# Altium footprint library Pcb_WS_v4.PcbLib: 33 footprints (part 2 of 3)
Each footprint in its own frame and in the unit in brackets; x right, y up, seen from the top. Pads: shape width x height; smd on the part's side, far side on the other; paste and mask are expansions set on the pad; w line width, h text height; cw(c..) or ccw(c..) is an arc to the next point about the centre after c.
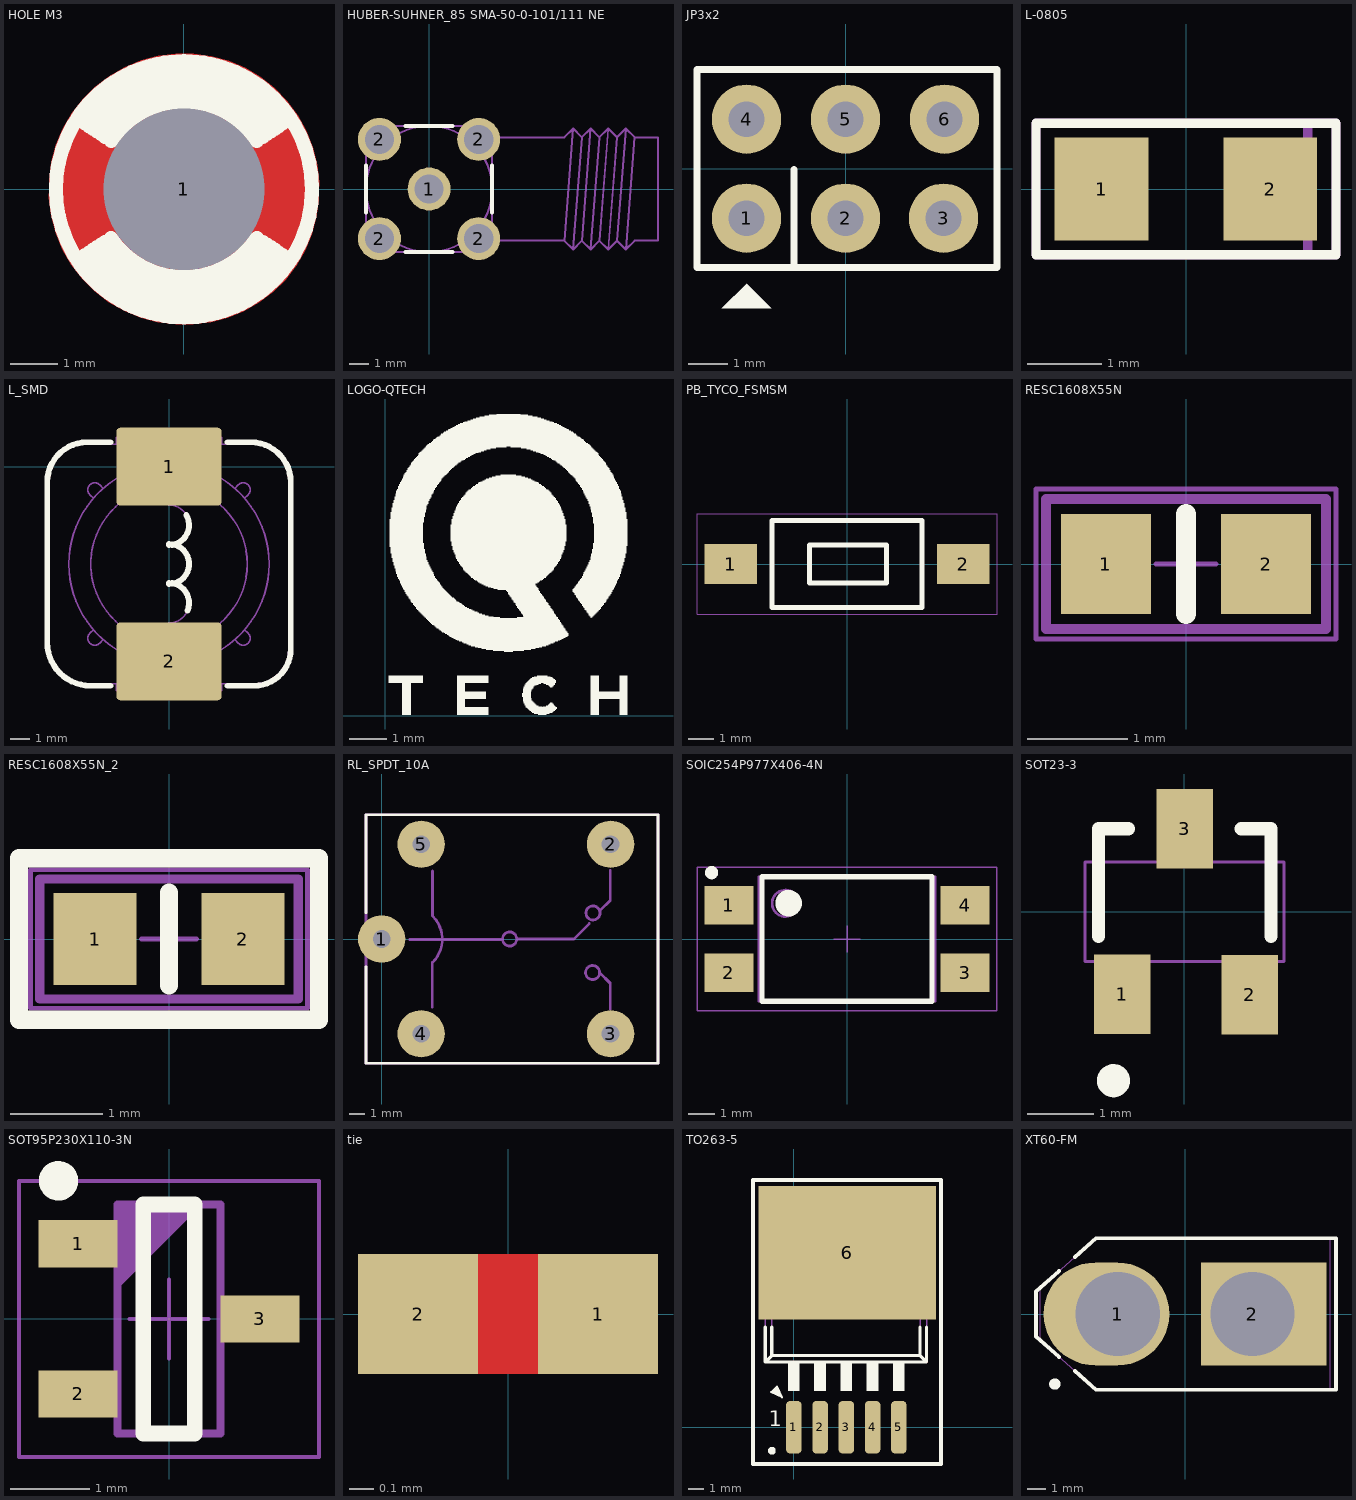
[diagram p1: the footprints below, top view; thin cyan lines are the x and y axes]

## HOLE M3 [mm]
pads (1):
  round 3.2 hole 3.4 unplated mask+0.1: 1(0,0)
Top Layer:
  pour cut-out: -2.846,0.006 -2.846,0.194 -2.797,0.566 -2.7,0.928 -2.557,1.275 -2.369,1.599 -2.14,1.897 -1.874,2.161 -1.576,2.389 -1.25,2.575 -0.903,2.717 -0.541,2.813 -0.168,2.86 0.019,2.859 0.207,2.858 0.58,2.808 0.943,2.708 1.29,2.562 1.614,2.37 1.91,2.138 2.173,1.868 2.398,1.567 2.581,1.238 2.718,0.887 2.808,0.522 2.849,0.148 2.845,-0.041 2.845,-0.226 2.796,-0.592 2.7,-0.949 2.557,-1.291 2.371,-1.611 2.145,-1.903 1.882,-2.164 1.587,-2.387 1.265,-2.57 0.922,-2.709 0.564,-2.802 0.197,-2.847 0.012,-2.845 -0.176,-2.848 -0.548,-2.803 -0.912,-2.709 -1.26,-2.567 -1.586,-2.381 -1.884,-2.154 -2.15,-1.888 -2.378,-1.59 -2.565,-1.265 -2.707,-0.917 -2.802,-0.554 -2.848,-0.181
Top Overlay:
  circle w0.3: c0,0 r2.702
  lines w0.3: -2.247,-1.498 ccw(c0,0) 2.247,-1.498 ; -2.247,1.498 cw(c0,0) 2.247,1.498 ; -2.163,-1.442 ccw(c0,0) 2.163,-1.442 ; -2.163,1.442 cw(c0,0) 2.163,1.442 ; -1.997,-1.331 ccw(c0,0) 1.997,-1.331 ; -1.997,1.331 cw(c0,0) 1.997,1.331 ; -1.831,-1.22 ccw(c0,0) 1.831,-1.22 ; -1.831,1.22 cw(c0,0) 1.831,1.22 ; -1.747,-1.165 ccw(c0,0) 1.747,-1.165 ; -1.747,1.165 cw(c0,0) 1.747,1.165 ; -1.664,-1.109 ccw(c0,0) 1.664,-1.109 ; -1.664,1.109 cw(c0,0) 1.664,1.109 ; -1.539,-1.026 ccw(c0,0) 1.539,-1.026 ; -1.534,1.023 cw(c0,0.007) 1.534,1.023 ; -2.08,-1.387 ccw(c0,0) 2.08,-1.387 cw(c0,0) -2.08,-1.387 ; -2.08,1.387 cw(c0,0) 2.08,1.387 ccw(c0,0) -2.08,1.387 ; -1.914,-1.276 ccw(c0,0) 1.914,-1.276 cw(c0,0) -1.914,-1.276 ; -1.914,1.276 cw(c0,0) 1.914,1.276 ccw(c0,0) -1.914,1.276
Top 3D Body:
  circle w0.05: c0,0 r2.702
  circle w0.05: c0,0 r1.686
  pour cut-out: 0,0
  region: -3.48,2.007
  pour cut-out: -2.845,0
  pour cut-out: -2.845,0
  pour cut-out: -2.845,0
Mechanical 14:
  circle w0.05: c0,0 r1.581
  circle w0.05: c0,0 r2.795
  lines w0.05: -1.575,0 0,0 ; 0,-1.575 0,0 ; 0,1.575 0,0 ; 1.575,0 0,0
3D body "Screw-3mmX10mm.step": height 1.73, standoff -10, extent -2.5,-2.5 2.5,2.5

## HUBER-SUHNER_85 SMA-50-0-101/111 NE [mm] "50 Ohm SMA Right Angle PCB Jack"
height 9.6
pads (5):
  round 2.2 hole 1.5: 1(0,0) 2(-2.54,-2.54) 2(-2.54,2.54) 2(2.54,-2.54) 2(2.54,2.54)
Top Overlay:
  lines w0.2: -3.23,-1.208 -3.23,1.208 ; -1.208,-3.23 1.208,-3.23 ; -1.208,3.23 1.208,3.23 ; 3.23,-1.208 3.23,1.208
Mechanical 8:
  lines w0.1: -3.54,-2.54 -2.54,-2.54 ; -3.54,2.54 -2.54,2.54 ; -2.54,-3.54 -2.54,-2.54 ; -2.54,-1.54 -2.54,-2.54 ; -2.54,1.54 -2.54,2.54 ; -2.54,3.54 -2.54,2.54 ; -1.54,-2.54 -2.54,-2.54 ; -1.54,2.54 -2.54,2.54 ; -1,0 0,0 ; 0,-1 0,0 ; 0,1 0,0 ; 1,0 0,0 ; 1.54,-2.54 2.54,-2.54 ; 1.54,2.54 2.54,2.54 ; 2.54,-3.54 2.54,-2.54 ; 2.54,-1.54 2.54,-2.54 ; 2.54,1.54 2.54,2.54 ; 2.54,3.54 2.54,2.54 ; 3.54,-2.54 2.54,-2.54 ; 3.54,2.54 2.54,2.54
Top Assembly:
  circle w0.1: c0,0 r3.23
  circle w0.1: c0,0 r0.63
  lines w0.1: 2.558,-3.23 3.23,-2.558 ; 3.23,-2.65 6.93,-2.65 ; 3.23,2.65 6.93,2.65 7.38,3.1 ; 6.93,-2.65 7.38,3.1 ; 6.93,-2.65 7.38,-3.1 ; 7.38,-3.1 7.83,2.65 ; 7.38,-3.1 7.83,-2.65 ; 7.38,3.1 7.83,2.65 ; 7.83,-2.65 8.28,3.1 ; 7.83,-2.65 8.28,-3.1 ; 7.83,2.65 8.28,3.1 ; 8.28,-3.1 8.73,2.65 ; 8.28,-3.1 8.73,-2.65 ; 8.28,3.1 8.73,2.65 ; 8.73,-2.65 9.18,3.1 ; 8.73,-2.65 9.18,-3.1 ; 8.73,2.65 9.18,3.1 ; 9.18,-3.1 9.63,2.65 ; 9.18,-3.1 9.63,-2.65 ; 9.18,3.1 9.63,2.65 ; 9.63,-2.65 10.08,3.1 ; 9.63,-2.65 10.08,-3.1 ; 9.63,2.65 10.08,3.1 ; 10.08,-3.1 10.53,2.65 ; 10.08,-3.1 10.53,-2.65 11.73,-2.65 11.73,2.65 10.53,2.65 ; 10.08,3.1 10.53,2.65 ; -3.23,-3.23 3.23,-3.23 3.23,3.23 -3.23,3.23 -3.23,-3.23
3D body "HUBER-SUHNER_85 SMA-50-0-101-111 NE.stp": height 9.6, standoff -4, extent -3.23,-3.23 11.73,3.23

## JP3x2 [mil] "Connector 3x2"
height 200
pads (6):
  round 70 hole 36: 1(-100,-50) 2(0,-50) 3(99,-50) 4(-100,50) 5(0,50) 6(100,50)
Top Overlay:
  region: -100,-116 -125,-141 -75,-141
  lines w7: -52,-100 -52,-1 ; -150,-100 153,-100 153,100 -150,100 -150,0 -150,-100
3D body "JP2-3.stp": height 335.24, standoff -117.51, extent -149.99,-100 150.01,100

## L-0805 [mil] "Compoment SMD 80x50mil"
height 50
pads (2):
  rect 50x55 smd: 1(-45,0) 2(45,0)
Top Overlay:
  lines w5: -80,-35 -80,35 80,35 80,-35 -80,-35
Top Assembly:
  lines w5: 65,-35 65,35 ; -80,-35 -80,35 80,35 80,-35 -80,-35
3D body: height 39.37, standoff 0, extent -40,-20 40,20
3D body: height 43.31, standoff 0, extent -50,-20 -40,20
3D body: height 43.31, standoff 0, extent 40,-20 50,20

## L_SMD [mm]
height 15.24
pads (2):
  rrect10% 5.4x4 smd mask+0.1: 1(0,0) 2(0,-10)
Top Overlay:
  lines w0.3: -3,-11.25 -4.031,-11.25 cw(c-4.031,-9.031) -6.25,-9.031 -6.25,-0.796 cw(c-4.204,-0.796) -4.204,1.25 -3,1.25 ; 0,-6.03 ccw(c0,-5) 0,-3.97 ; 0,-5.97 cw(c0,-7) 0.956,-7.381 ; 0,-4.03 ccw(c0,-3) 0.889,-2.481 ; 3,-11.25 4.372,-11.25 ccw(c4.372,-9.372) 6.25,-9.372 6.25,-0.796 ccw(c4.204,-0.796) 4.204,1.25 3,1.25
Top Assembly:
  circle w0.086: c0,-5 r5.143
  circle w0.086: c0,-5 r4.016
  lines w0.086: -3.879,-8.371 -4.064,-8.556 ccw(c-3.81,-8.81) -3.556,-9.064 -3.371,-8.879 ; -3.879,-1.629 -4.064,-1.444 cw(c-3.81,-1.19) -3.556,-0.936 -3.371,-1.121 ; -2.7,-11.15 -2.7,-11.5 2.7,-11.5 2.7,-11.15 ; -2.7,1.15 -2.7,1.5 2.7,1.5 2.7,1.15 ; -2.7,1.375 -2.7,1.4 ; 0,-8.2 0,-8.03 ccw(c0,-7) 0,-5.97 ; 0,-6.03 ccw(c0,-5) 0,-3.97 ; 0,-4.03 ccw(c0,-3) 0,-1.97 0,-1.8 ; 3.371,-8.879 3.556,-9.064 ccw(c3.81,-8.81) 4.064,-8.556 3.879,-8.371 ; 3.371,-1.121 3.556,-0.936 cw(c3.81,-1.19) 4.064,-1.444 3.879,-1.629 ; -6.15,-9.372 ccw(c-4.372,-9.372) -4.372,-11.15 4.372,-11.15 ccw(c4.372,-9.372) 6.15,-9.372 6.15,-0.628 ccw(c4.372,-0.628) 4.372,1.15 -4.372,1.15 ccw(c-4.372,-0.628) -6.15,-0.628 -6.15,-9.372
  text "2" at -0.5,-10.2 h1.2
  text "1" at -0.5,0.9 h1.2
3D body "User Library-WE-DD-L.STEP": height 6.7, standoff 0, extent -6.25,-11.25 6.25,1.25

## LOGO-QTECH [mm]
Top Overlay:
  drawing of 802 lines, arcs and shapes, not listed

## PB_TYCO_FSMSM [mm] "Body 3.5x6.0mm, Pushbutton Switch,  TYCO FSMSM Serie"
height 4.3
pads (2):
  rect 2.1x1.6 smd: 1(-4.65,0) 2(4.65,0)
Top Overlay:
  lines w0.2: -3,-1.75 3,-1.75 3,1.75 -3,1.75 -3,-1.75 ; -1.5,-0.75 1.575,-0.75 1.575,0.75 -1.5,0.75 -1.5,-0.75
Top Assembly:
  lines w0.1: -3,-1.75 -3,1.75 3,1.75 3,-1.75 -3,-1.75 ; -1.5,-0.75 -1.5,0.75 1.575,0.75 1.575,-0.75 -1.5,-0.75
Mechanical 15:
  lines w0.05: -6,-2 6,-2 6,2 -6,2 -6,-2
3D body "PB_TYCO_FSMSM.stp": height 4.3, standoff 0, extent -5,-1.75 5,1.75

## RESC1608X55N [mm] "Chip Resistor, EIA 0603, Metric 1608, Body 1.6x0.8mm, IPC Medium Density"
height 0.55
pads (2):
  rect 0.9x1 smd: 1(-0.8,0) 2(0.8,0)
Top Overlay:
  lines w0.2: 0,-0.5 0,0.5
Top Assembly:
  lines w0.1: -1.4,-0.65 -1.4,0.65 1.4,0.65 1.4,-0.65 -1.4,-0.65
Mechanical 15:
  lines w0.05: -0.3,0 0.3,0 ; 0,-0.3 0,0.3 ; -1.5,-0.75 1.5,-0.75 1.5,0.75 -1.5,0.75 -1.5,-0.75
3D body "RESC1608X55N.stp": height 0.55, standoff 0, extent -0.875,-0.475 0.875,0.475

## RESC1608X55N_2 [mm]
pads (2):
  rect 0.9x1 smd: 1(-0.8,0) 2(0.8,0)
Top Overlay:
  lines w0.2: 0,-0.5 0,0.5 ; -1.625,-0.875 1.625,-0.875 1.625,0.875 -1.625,0.875 -1.625,-0.875
Top Assembly:
  lines w0.1: -1.4,-0.65 1.4,-0.65 1.4,0.65 -1.4,0.65 -1.4,-0.65
Mechanical 15:
  lines w0.05: -0.3,0 0.3,0 ; 0,-0.3 0,0.3 ; -1.5,-0.75 -1.5,0.75 1.5,0.75 1.5,-0.75 -1.5,-0.75
3D body "RESC1608X55N.stp": height 0.55, standoff 0, extent -0.875,-0.475 0.875,0.475

## RL_SPDT_10A [mil] "Relay SPDT, 5 pin, 10A,W 650mil, L 800mil, H 800mil"
height 800
pads (5):
  round 120 hole 45: 1(0,0) 2(580,240) 3(580,-240) 4(100,-240) 5(100,240)
Top Overlay:
  lines w7: -40,-70.39 -40,-315 700,-315 700,315 -40,315 -40,66.64
Top Assembly:
  circle w7: c324.2,0 r17.8
  circle w7: c535.2,66 r17.8
  circle w7: c534.2,-85 r17.8
  lines w7: 71,-1 304,-1 ; 128,-173 128,-60 ; 129,-59 ccw(c71.5,-0.5) 130,57 ; 129,58 129,172 ; 344,0 487,0 526,39 ; 552,-85 579,-112 579,-178 ; 553,72 579,98 579,174 ; -40,-315 700,-315 700,315 -40,315 -40,-315

## SOIC254P977X406-4N [mm] "SOIC, 2.54mm pitch; 4 pin, 6.65mm W X 4.69mm L, IPC Medium Density"
height 4.06
pads (4):
  rect 1.85x1.45 smd: 1(-4.45,1.27) 2(-4.45,-1.27) 3(4.45,-1.27) 4(4.45,1.27)
Top Overlay:
  circle w0.5: c-2.2,1.35 r0.25
  circle w0.25: c-5.1,2.5 r0.125
  lines w0.2: -3.2,-2.35 3.2,-2.35 3.2,2.35 -3.2,2.35 -3.2,-2.35
Top Assembly:
  circle w0.1: c-2.322,1.345 r0.5
  lines w0.1: -3.322,-2.345 -3.322,2.345 3.322,2.345 3.322,-2.345 -3.322,-2.345
Mechanical 15:
  lines w0.05: -0.5,0 0.5,0 ; 0,-0.5 0,0.5 ; -5.65,-2.7 -5.65,2.7 5.65,2.7 5.65,-2.7 -5.65,-2.7
3D body "SOIC254P977X406-4N.stp": height 4.06, standoff 0, extent -5.015,-2.415 5.015,2.415

## SOT23-3 [mm] "SOT 23"
height 1.27
pads (3):
  rect 0.85x1.2 smd: 1(-0.94,-1.245) 2(0.985,-1.25) 3(0.005,1.25)
Top Overlay:
  circle w0.25: c-1.07,-2.548 r0.125
  lines w0.2: -1.295,-0.375 -1.295,1.25 -0.845,1.25 ; 0.855,1.25 1.305,1.25 1.305,-0.375
Top Assembly:
  lines w0.05: -1.25,-0.75 -1.25,-1.5 -0.625,-1.5 -0.625,-0.75 ; -0.25,0.75 -0.25,1.5 0.25,1.5 0.25,0.75 ; 0.625,-0.75 0.625,-1.5 1.25,-1.5 1.25,-0.75 ; -1.5,-0.75 1.5,-0.75 1.5,0.75 -1.5,0.75 -1.5,-0.75
3D body: height 1.27, standoff 0, extent -1.499,-0.686 1.524,0.711
3D body: height 1.27, standoff 0, extent -0.879,-0.505 -0.63,-0.257
3D body: height 0.9, standoff 0.75, extent -1.158,-0.837 -0.701,-0.557
3D body: height 0.9, standoff 0, extent -1.158,-0.964 -0.701,-0.837
3D body: height 0.15, standoff 0, extent -1.158,-1.497 -0.701,-0.964
3D body: height 0.9, standoff 0.75, extent -0.234,0.563 0.224,0.842
3D body: height 0.9, standoff 0, extent -0.234,0.842 0.224,0.969
3D body: height 0.15, standoff 0, extent -0.234,0.969 0.224,1.503
3D body: height 0.9, standoff 0.75, extent 0.767,-0.842 1.224,-0.563
3D body: height 0.9, standoff 0, extent 0.767,-0.969 1.224,-0.842
3D body: height 0.15, standoff 0, extent 0.767,-1.503 1.224,-0.969

## SOT95P230X110-3N [mm] "SOT23, 3 pin, Pitch 0.95mm - 1.3mm W X 2.9mm L X 1.1mm H, IPC Medium Density"
height 1.1
pads (3):
  rect 1x0.6 smd: 1(-1.15,0.95) 2(-1.15,-0.95) 3(1.15,0)
Top Overlay:
  circle w0.25: c-1.4,1.75 r0.125
  lines w0.2: -0.325,-1.45 0.325,-1.45 0.325,1.45 -0.325,1.45 -0.325,-1.45
Top Assembly:
  lines w0.1: -0.65,0.45 0.35,1.45 ; -0.65,0.55 0.25,1.45 ; -0.65,0.65 0.15,1.45 ; -0.65,0.75 0.05,1.45 ; -0.65,0.85 -0.05,1.45 ; -0.65,0.95 -0.15,1.45 ; -0.65,1.05 -0.25,1.45 ; -0.65,1.15 -0.35,1.45 ; -0.65,1.25 -0.45,1.45 ; -0.65,1.35 -0.55,1.45 ; -0.65,-1.45 0.65,-1.45 0.65,1.45 -0.65,1.45 -0.65,-1.45
Mechanical 15:
  lines w0.05: -0.5,0 0.5,0 ; 0,-0.5 0,0.5 ; -1.9,-1.75 1.9,-1.75 1.9,1.75 -1.9,1.75 -1.9,-1.75
3D body "SOT95P240X110-3N.stp": height 1.1, standoff 0, extent -1.166,-1.5 1.334,1.5

## tie [mm]
pads (2):
  rect 0.5x0.5 smd paste-1 mask+0.102: 1(0.375,0) 2(-0.375,0)
Top Layer:
  rectangle: -0.625,-0.25 0.625,0.25

## TO263-5 [mm]
height 15.24
pads (6):
  rrect50% 1x3.4 smd: 1(0,0) 2(1.7,0) 4(5.1,0) 5(6.8,0)
  rrect50% 1x3.4 smd mask+0: 3(3.4,0)
  rect 11.5x8.634 smd: 6(3.45,11.302)
Top Overlay:
  circle w0.25: c-1.424,-1.524 r0.125
  rectangle: 6.42,2.362 7.178,4.241
  rectangle: 4.72,2.362 5.478,4.241
  rectangle: 3.021,2.361 3.779,4.241
  rectangle: 1.32,2.362 2.079,4.241
  rectangle: -0.38,2.362 0.379,4.241
  lines w0.127: -1.274,2.458 -0.755,1.939 ; -1.274,2.458 -1.466,2.269 -0.755,1.939 ; -1.274,2.458 -1.085,2.65 -0.755,1.939
  lines w0.178: -1.288,2.32 -1.11,2.142 ; -1.136,2.472 -0.958,2.294
  lines w0.2: -1.854,6.476 -1.854,4.216 ; -1.431,6.476 -1.431,4.64 ; 8.183,6.476 8.183,4.64 ; 8.606,6.476 8.606,4.216 ; -1.854,4.216 -1.431,4.64 ; -1.854,4.216 8.606,4.216 ; -1.431,4.64 8.183,4.64 ; 8.183,4.64 8.606,4.216
  lines w0.254: -2.656,-2.381 -2.656,16.015 9.544,16.015 9.544,-2.381 -2.656,-2.381
  text "1" at -1.626,0.051 h1
Top Assembly:
  lines w0.086: -1.854,4.241 -1.854,12.895 ; 8.154,4.647 -1.431,4.647 -1.431,12.471 ; 8.183,4.64 8.183,12.471 ; 8.606,4.216 8.606,12.895 ; -1.854,12.895 -1.854,13.716 -0.373,14.588 7.247,14.588 8.606,13.768 8.606,12.895 ; -1.854,12.895 8.606,12.895 ; -1.854,12.895 -1.431,12.471 ; -1.431,12.471 8.183,12.471 ; 8.183,12.471 8.606,12.895
3D body "SW3dPS-TO-263 5Ld.STEP": height 4.57, standoff -0.01, extent -1.71,-0.871 8.45,13.77

## XT60-FM [mm]
height 16
pads (2):
  oval 6.716x5.516 hole 4.5 copper offset -0.6,0: 1(-3.6,0)
  rect 6.716x5.516 hole 4.5 copper offset 0.6,0: 2(3.6,0)
Top Overlay:
  circle w0.3: c-6.958,-3.746 r0.15
  lines w0.2: -6.73,-2.3 -7.965,-1.211 -7.965,1.211 -6.73,2.3 ; -5.88,-3.05 -4.75,-4.05 8.063,-4.05 8.063,4.05 -4.75,4.05 -5.88,3.05
Top Assembly:
  circle w0.05: c3.6,0 r2.202
  circle w0.05: c-3.6,0 r2.202
  lines w0.05: -7.75,-1.4 -7.75,1.4 ; -7.75,-1.4 -7.75,1.4 ; -7.75,-1.4 -4.75,-4.05 ; -7.75,-1.4 -4.75,-4.05 ; -7.75,1.4 -4.75,4.05 ; -7.75,1.4 -4.75,4.05 ; -4.75,-4.05 7.75,-4.05 ; -4.75,-4.05 7.75,-4.05 ; -4.75,4.05 7.75,4.05 ; -4.75,4.05 7.75,4.05 ; 7.75,-4.05 7.75,4.05 ; 7.75,-4.05 7.75,4.05
3D body "XT60 Female Connector.STEP": height 15.5, standoff -3.33, extent -7.811,-4.069 8.124,4.059